# Altium footprint library UXCELL_TACT_SWITCH.PcbLib: 1 footprints
Each footprint in its own frame and in the unit in brackets; x right, y up, seen from the top. Pads: shape width x height; smd on the part's side, far side on the other; paste and mask are expansions set on the pad; w line width, h text height; cw(c..) or ccw(c..) is an arc to the next point about the centre after c.
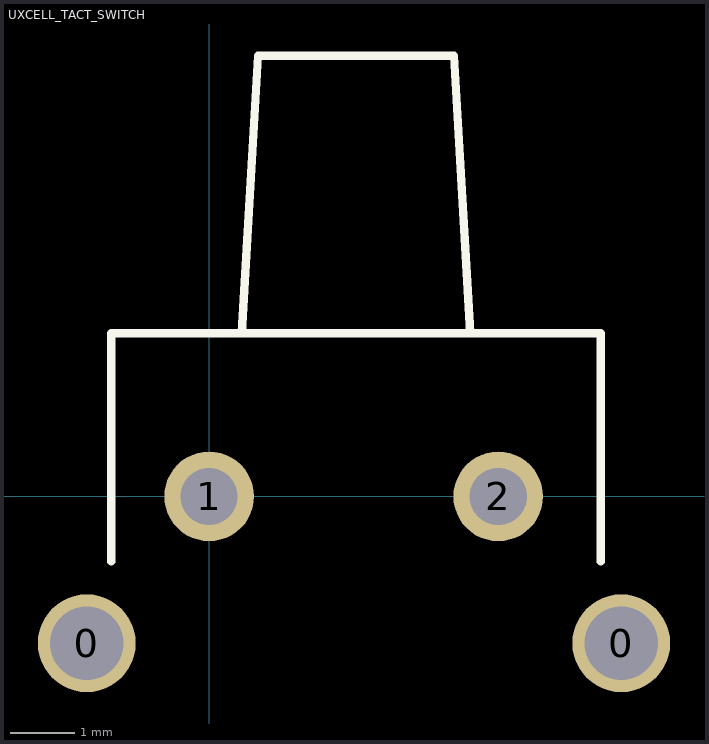
[diagram p0: the footprint, top view; thin cyan lines are the x and y axes]

## UXCELL_TACT_SWITCH [mil] "Right angle tactile switch"
pads (4):
  round 60 hole 45: 0(-75,-90) 0(252.53,-90)
  round 55 hole 35: 1(0,0) 2(177.17,0)
Top Overlay:
  lines w5: -60,-40 -60,100 240,100 240,-40 ; 20,100 30,270 150,270 160,100
3D body "Uxcell_tact_switch.SLDPRT": height 279.53, standoff -129.92, extent -57.09,-156.5 238.19,272.64